# Altium footprint library CHXXX.pcblib: 120 footprints (part 5 of 8)
Each footprint in its own frame and in the unit in brackets; x right, y up, seen from the top. Pads: shape width x height; smd on the part's side, far side on the other; paste and mask are expansions set on the pad; w line width, h text height; cw(c..) or ccw(c..) is an arc to the next point about the centre after c.
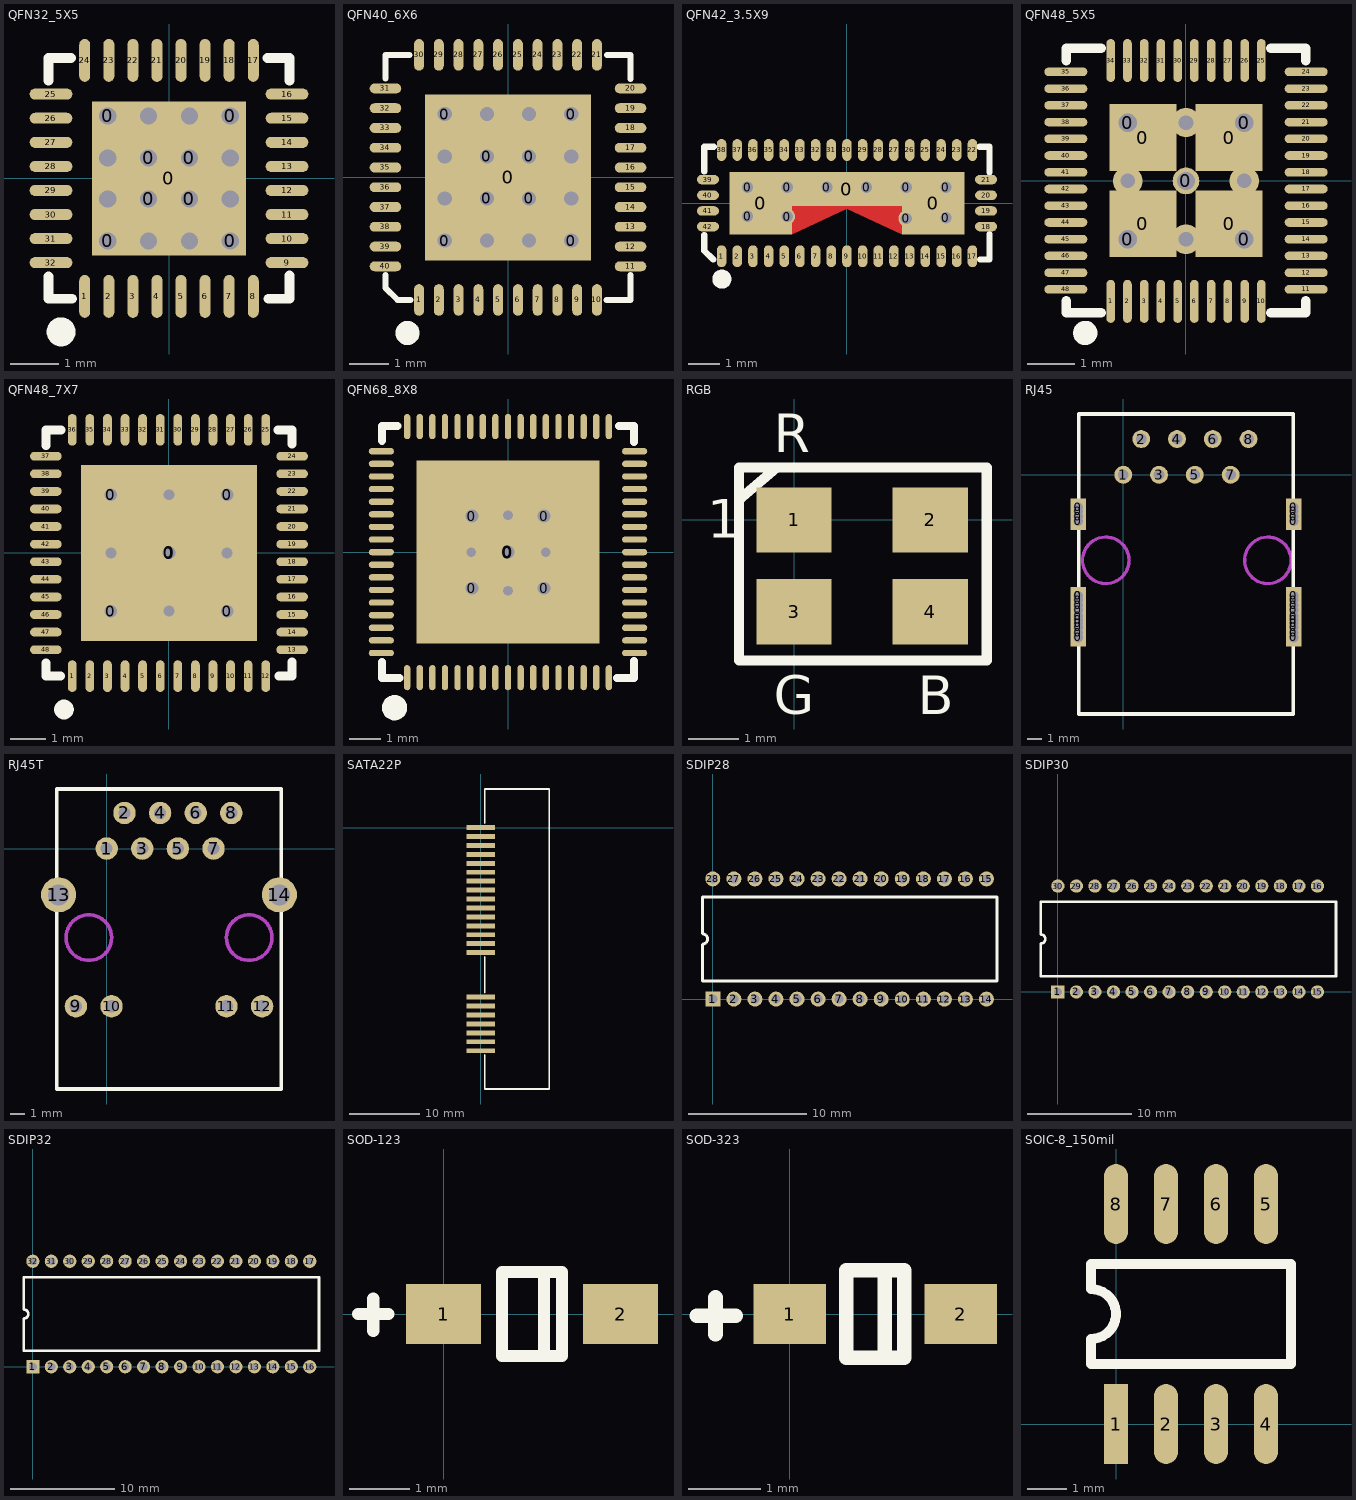
[diagram p4: the footprints below, top view; thin cyan lines are the x and y axes]

## QFN32_5X5 [mil]
pads (41):
  round 20 hole 14: 0(-50.12,-51.11) 0(-50.12,51.11) 0(-16.71,-16.7) 0(-16.71,16.7) 0(16.71,-16.7) 0(16.71,16.7) 0(50.12,-51.11) 0(50.12,51.11)
  rect 125.98x125.98 smd: 0(0,0)
  oval 9x35 smd: 1(-68.9,-96.49) 2(-49.21,-96.49) 3(-29.53,-96.49) 4(-9.84,-96.49) 5(9.84,-96.49) 6(29.53,-96.49) 7(49.21,-96.49) 8(68.9,-96.49) 17(68.9,96.49) 18(49.21,96.49) 19(29.53,96.49) 20(9.84,96.49) 21(-9.84,96.49) 22(-29.53,96.49) 23(-49.21,96.49) 24(-68.9,96.49)
  oval 35x9 smd: 9(96.49,-68.9) 10(96.49,-49.21) 11(96.49,-29.53) 12(96.49,-9.84) 13(96.49,9.84) 14(96.49,29.53) 15(96.49,49.21) 16(96.49,68.9) 25(-96.49,68.9) 26(-96.49,49.21) 27(-96.49,29.53) 28(-96.49,9.84) 29(-96.49,-9.84) 30(-96.49,-29.53) 31(-96.49,-49.21) 32(-96.49,-68.9)
via -16.71,51.11 diameter 20 hole 14
via 16.71,51.11 diameter 20 hole 14
via 50.12,16.7 diameter 20 hole 14
via 50.12,-16.7 diameter 20 hole 14
via 16.71,-51.11 diameter 20 hole 14
via -16.71,-51.11 diameter 20 hole 14
via -50.12,-16.7 diameter 20 hole 14
via -50.12,16.7 diameter 20 hole 14
TopOverlay:
  circle w12: c-88.22,-125.47 r5.84
  lines w8: -98.43,-80.19 -98.43,-98.43 -79.38,-98.43 ; -98.43,79.88 -98.43,98.43 -80.12,98.43 ; 80.43,98.43 98.42,98.43 98.42,79.79 ; 81.23,-98.43 98.42,-98.43 98.42,-79.42

## QFN40_6X6 [mm]
pads (49):
  round 0.508 hole 0.356 mask+0.102: 0(-1.6,-1.6) 0(-1.6,1.6) 0(-0.533,-0.533) 0(-0.533,0.533) 0(0.533,-0.533) 0(0.533,0.533) 0(1.6,-1.6) 0(1.6,1.6)
  rect 4.2x4.2 smd mask+0.102: 0(0,0)
  oval 0.25x0.8 smd mask+0.102: 1(-2.25,-3.1) 2(-1.75,-3.1) 3(-1.25,-3.1) 4(-0.75,-3.1) 5(-0.25,-3.1) 6(0.25,-3.1) 7(0.75,-3.1) 8(1.25,-3.1) 9(1.75,-3.1) 10(2.25,-3.1) 21(2.25,3.1) 22(1.75,3.1) 23(1.25,3.1) 24(0.75,3.1) 25(0.25,3.1) 26(-0.25,3.1) 27(-0.75,3.1) 28(-1.25,3.1) 29(-1.75,3.1) 30(-2.25,3.1)
  oval 0.8x0.25 smd mask+0.102: 11(3.1,-2.25) 12(3.1,-1.75) 13(3.1,-1.25) 14(3.1,-0.75) 15(3.1,-0.25) 16(3.1,0.25) 17(3.1,0.75) 18(3.1,1.25) 19(3.1,1.75) 20(3.1,2.25) 31(-3.1,2.25) 32(-3.1,1.75) 33(-3.1,1.25) 34(-3.1,0.75) 35(-3.1,0.25) 36(-3.1,-0.25) 37(-3.1,-0.75) 38(-3.1,-1.25) 39(-3.1,-1.75) 40(-3.1,-2.25)
via -0.533,1.6 diameter 0.508 hole 0.356
via 0.533,1.6 diameter 0.508 hole 0.356
via 1.6,0.533 diameter 0.508 hole 0.356
via 1.6,-0.533 diameter 0.508 hole 0.356
via 0.533,-1.6 diameter 0.508 hole 0.356
via -0.533,-1.6 diameter 0.508 hole 0.356
via -1.6,0.533 diameter 0.508 hole 0.356
via -1.6,-0.533 diameter 0.508 hole 0.356
TopOverlay:
  circle w0.305: c-2.541,-3.936 r0.152
  lines w0.152: -3.1,-2.79 -3.1,-2.794 ; -3.1,-2.466 -3.1,-2.794 ; -3.1,2.501 -3.1,3.1 -2.493,3.1 ; -2.467,-3.1 -2.794,-3.1 -3.1,-2.794 ; 2.491,-3.1 3.1,-3.1 3.1,-2.476 ; 2.502,3.1 3.1,3.1 3.1,2.484

## QFN42_3.5X9 [mm]
pads (55):
  round 0.508 hole 0.356 mask+0: 0(-3.176,-0.419) 0(-3.176,0.504) 0(-1.909,-0.429) 0(-1.909,0.504) 0(-0.642,0.504) 0(0.625,0.504) 0(1.892,-0.49) 0(1.892,0.504) 0(3.159,-0.469) 0(3.159,0.504)
  rect 2x2 smd: 0(-2.75,0) 0(2.75,0)
  rect 7.5x1.1 smd: 0(-0.002,0.45)
  oval 0.3x0.7 smd: 1(-4.002,-1.697) 2(-3.502,-1.697) 3(-3.002,-1.697) 4(-2.502,-1.697) 5(-2.002,-1.697) 6(-1.502,-1.697) 7(-1.002,-1.697) 8(-0.502,-1.697) 9(-0.002,-1.697) 10(0.498,-1.697) 11(0.998,-1.697) 12(1.498,-1.697) 13(2.002,-1.697) 14(2.502,-1.697) 15(3.002,-1.697) 16(3.502,-1.697) 17(4.002,-1.697) 22(4.002,1.697) 23(3.502,1.697) 24(3.002,1.697) 25(2.502,1.697) 26(2.002,1.697) 27(1.498,1.697) 28(0.998,1.697) 29(0.498,1.697) 30(-0.002,1.697) 31(-0.502,1.697) 32(-1.002,1.697) 33(-1.502,1.697) 34(-2.002,1.697) 35(-2.502,1.697) 36(-3.002,1.697) 37(-3.502,1.697) 38(-4.002,1.697)
  oval 0.7x0.3 smd: 18(4.438,-0.75) 19(4.438,-0.25) 20(4.438,0.25) 21(4.438,0.75) 39(-4.438,0.75) 40(-4.438,0.25) 41(-4.438,-0.25) 42(-4.438,-0.75)
TopLayer:
  region: 1.745,-1 1.745,0 -1.75,0 -1.75,-1 -0.002,-0.174
TopOverlay:
  circle w0.305: c-3.994,-2.425 r0.152
  lines w0.203: -4.552,-1.02 -4.552,-1.521 -4.273,-1.8 ; -4.552,1.01 -4.552,1.8 -4.25,1.8 ; 4.23,1.8 4.548,1.8 4.548,0.99 ; 4.25,-1.8 4.548,-1.8 4.548,-1
TopPaste:
  region: -1.75,-1 -0.002,-0.174 1.745,-1 2.356,-1 2.356,0 -2.36,0 -2.36,-1
TopSolder:
  region: -1.648,-1.102 -0.002,-0.323 1.644,-1.102 2.356,-1.102 2.356,0 -2.36,0 -2.36,-1.102

## QFN48_5X5 [mm]
pads (57):
  round 0.559 hole 0.381 mask+0.102: 0(-1.219,-1.219) 0(-1.219,1.219) 0(0,0) 0(1.219,-1.219) 0(1.219,1.219)
  rect 1.397x1.397 smd mask+0: 0(-0.901,-0.895) 0(-0.901,0.908) 0(0.902,-0.895) 0(0.902,0.908)
  oval 0.18x0.9 smd: 1(-1.575,-2.519) 2(-1.225,-2.519) 3(-0.875,-2.519) 4(-0.525,-2.519) 5(-0.175,-2.519) 6(0.175,-2.519) 7(0.525,-2.519) 8(0.875,-2.519) 9(1.225,-2.519) 10(1.575,-2.519) 25(1.575,2.519) 26(1.225,2.519) 27(0.875,2.519) 28(0.525,2.519) 29(0.175,2.519) 30(-0.175,2.519) 31(-0.525,2.519) 32(-0.875,2.519) 33(-1.225,2.519) 34(-1.575,2.519)
  oval 0.9x0.18 smd: 11(2.514,-2.269) 12(2.514,-1.919) 13(2.514,-1.569) 14(2.514,-1.219) 15(2.514,-0.869) 16(2.514,-0.519) 17(2.514,-0.169) 18(2.514,0.181) 19(2.514,0.531) 20(2.514,0.881) 21(2.514,1.231) 22(2.514,1.581) 23(2.514,1.931) 24(2.514,2.281) 35(-2.514,2.281) 36(-2.514,1.931) 37(-2.514,1.581) 38(-2.514,1.231) 39(-2.514,0.881) 40(-2.514,0.531) 41(-2.514,0.181) 42(-2.514,-0.169) 43(-2.514,-0.519) 44(-2.514,-0.869) 45(-2.514,-1.219) 46(-2.514,-1.569) 47(-2.514,-1.919) 48(-2.514,-2.269)
via 0,1.219 diameter 0.61 hole 0.305
via -1.219,0 diameter 0.61 hole 0.305
via 0,-1.219 diameter 0.61 hole 0.305
via 1.219,0 diameter 0.61 hole 0.305
TopOverlay:
  circle w0.254: c-2.108,-3.179 r0.127
  lines w0.2: -2.509,-2.506 -2.509,-2.76 -1.778,-2.76 ; -2.509,2.519 -2.509,2.772 -1.778,2.772 ; 1.778,-2.76 2.509,-2.76 2.509,-2.506 ; 1.778,2.772 2.509,2.772 2.509,2.519

## QFN48_7X7 [mm]
pads (54):
  round 0.559 hole 0.356 mask+0.102: 0(-1.651,-1.651) 0(-1.651,1.651) 0(0,0) 0(1.651,-1.651) 0(1.651,1.651)
  rect 5x5 smd mask+0.102: 0(0,0)
  oval 0.25x0.9 smd mask+0.102: 1(-2.75,-3.5) 2(-2.25,-3.5) 3(-1.75,-3.5) 4(-1.25,-3.5) 5(-0.75,-3.5) 6(-0.25,-3.5) 7(0.25,-3.5) 8(0.75,-3.5) 9(1.25,-3.5) 10(1.75,-3.5) 11(2.25,-3.5) 12(2.75,-3.5) 25(2.75,3.5) 26(2.25,3.5) 27(1.75,3.5) 28(1.25,3.5) 29(0.75,3.5) 30(0.25,3.5) 31(-0.25,3.5) 32(-0.75,3.5) 33(-1.25,3.5) 34(-1.75,3.5) 35(-2.25,3.5) 36(-2.75,3.5)
  oval 0.9x0.25 smd mask+0.102: 13(3.5,-2.75) 14(3.5,-2.25) 15(3.5,-1.75) 16(3.5,-1.25) 17(3.5,-0.75) 18(3.5,-0.25) 19(3.5,0.25) 20(3.5,0.75) 21(3.5,1.25) 22(3.5,1.75) 23(3.5,2.25) 24(3.5,2.75) 37(-3.5,2.75) 38(-3.5,2.25) 39(-3.5,1.75) 40(-3.5,1.25) 41(-3.5,0.75) 42(-3.5,0.25) 43(-3.5,-0.25) 44(-3.5,-0.75) 45(-3.5,-1.25) 46(-3.5,-1.75) 47(-3.5,-2.25) 48(-3.5,-2.75)
via 0,-1.651 diameter 0.61 hole 0.305
via 1.651,0 diameter 0.61 hole 0.305
via 0,1.651 diameter 0.61 hole 0.305
via -1.651,0 diameter 0.61 hole 0.305
TopOverlay:
  circle w0.305: c-2.986,-4.451 r0.127
  lines w0.254: -3.5,-3.128 -3.5,-3.5 -3.082,-3.5 ; -3.5,3.057 -3.5,3.5 -3.066,3.5 ; 3.099,3.5 3.5,3.5 3.5,3.096 ; 3.126,-3.5 3.5,-3.5 3.5,-3.104

## QFN68_8X8 [mm]
pads (74):
  round 0.559 hole 0.406: 0(-1.143,-1.143) 0(-1.143,1.143) 0(0,0) 0(1.143,-1.143) 0(1.143,1.143)
  rect 5.8x5.8 smd: 0(0,0)
  oval 0.2x0.8 smd: 1(-3.2,-3.982) 2(-2.8,-3.982) 3(-2.4,-3.982) 4(-2,-3.982) 5(-1.6,-3.982) 6(-1.2,-3.982) 7(-0.8,-3.982) 8(-0.4,-3.982) 9(0,-3.982) 10(0.4,-3.982) 11(0.8,-3.982) 12(1.2,-3.982) 13(1.6,-3.982) 14(2,-3.982) 15(2.4,-3.982) 16(2.8,-3.982) 17(3.2,-3.982) 35(3.2,3.982) 36(2.8,3.982) 37(2.4,3.982) 38(2,3.982) 39(1.6,3.982) 40(1.2,3.982) 41(0.8,3.982) 42(0.4,3.982) 43(0,3.982) 44(-0.4,3.982) 45(-0.8,3.982) 46(-1.2,3.982) 47(-1.6,3.982) 48(-2,3.982) 49(-2.4,3.982) 50(-2.8,3.982) 51(-3.2,3.982)
  oval 0.8x0.2 smd: 18(4.018,-3.2) 19(4.018,-2.8) 20(4.018,-2.4) 21(4.018,-2) 22(4.018,-1.6) 23(4.018,-1.2) 24(4.018,-0.8) 25(4.018,-0.4) 26(4.018,0) 27(4.018,0.4) 28(4.018,0.8) 29(4.018,1.2) 30(4.018,1.6) 31(4.018,2) 32(4.018,2.4) 33(4.018,2.8) 34(4.018,3.2) 52(-4.018,3.2) 53(-4.018,2.8) 54(-4.018,2.4) 55(-4.018,2) 56(-4.018,1.6) 57(-4.018,1.2) 58(-4.018,0.8) 59(-4.018,0.4) 60(-4.018,0) 61(-4.018,-0.4) 62(-4.018,-0.8) 63(-4.018,-1.2) 64(-4.018,-1.6) 65(-4.018,-2) 66(-4.018,-2.4) 67(-4.018,-2.8) 68(-4.018,-3.2)
via 1.194,0 diameter 0.61 hole 0.305
via 0,-1.219 diameter 0.61 hole 0.305
via -1.168,0 diameter 0.61 hole 0.305
via 0,1.168 diameter 0.61 hole 0.305
TopOverlay:
  circle w0.4: c-3.599,-4.935 r0.2
  lines w0.254: -4,-3.492 -4,-4 -3.447,-4 ; -4,3.534 -4,4 -3.503,4 ; 3.459,-4 4,-4 4,-3.458 ; 3.517,4 4,4 4,3.498

## RGB [mm]
pads (4):
  rect 1.5x1.3 smd: 1(0,0) 2(2.71,0) 3(0,-1.825) 4(2.71,-1.825)
TopOverlay:
  lines w0.203: -1.09,0.404 -0.352,1.037 ; -1.092,-2.794 3.835,-2.794 3.835,1.041 -1.092,1.041 -1.092,-2.794
  text "B" at 2.464,-3.861 h0.76
  text "G" at -0.406,-3.861 h0.76
  text "R" at -0.406,1.346 h0.76
  text "1" at -1.727,-0.356 h0.76

## RJ45 [mm]
pads (37):
  rect 1.1x1.27 hole 0.701: 0(-3.2,-11.541) 0(-3.2,-11.212) 0(-3.2,-10.831) 0(-3.2,-10.541) 0(-3.2,-10.287) 0(-3.2,-10.033) 0(-3.2,-9.6) 0(-3.2,-9.271) 0(-3.2,-8.89) 0(-3.2,-8.6) 0(-3.2,-8.6) 0(-3.2,-3.3) 0(-3.2,-2.971) 0(-3.2,-2.59) 0(-3.2,-2.3) 0(12.1,-11.541) 0(12.1,-11.212) 0(12.1,-10.831) 0(12.1,-10.541) 0(12.1,-10.287) 0(12.1,-10.033) 0(12.1,-9.6) 0(12.1,-9.271) 0(12.1,-8.89) 0(12.1,-8.6) 0(12.1,-3.3) 0(12.1,-2.971) 0(12.1,-2.59) 0(12.1,-2.3)
  round 1.27 hole 0.762: 1(0,0) 2(1.27,2.54) 3(2.54,0) 4(3.81,2.54) 5(5.08,0) 6(6.35,2.54) 7(7.62,0) 8(8.89,2.54)
TopOverlay:
  lines w0.254: 12.065,-13.335 12.065,4.318 ; 12.065,4.318 -3.175,4.318 -3.175,-16.982 12.065,-16.982 12.065,4.318
KeepOutLayer:
  circle w0.229: c10.262,-6.071 r1.651
  circle w0.229: c-1.245,-6.071 r1.651
Mechanical1:
  circle w0.229: c10.262,-6.071 r1.651
  circle w0.229: c-1.245,-6.071 r1.651

## RJ45T [mm]
pads (14):
  round 1.6 hole 0.85: 1(0,0) 2(1.27,2.54) 3(2.54,0) 4(3.81,2.54) 5(5.08,0) 6(6.35,2.54) 7(7.62,0) 8(8.89,2.54)
  round 1.6 hole 0.9: 9(-2.195,-11.25) 10(0.345,-11.25) 11(8.545,-11.25) 12(11.085,-11.25)
  round 2.5 hole 1.5: 13(-3.43,-3.3) 14(12.32,-3.3)
TopOverlay:
  lines w0.254: -3.555,-17.15 -3.555,4.25 12.445,4.25 12.445,-17.15 -3.555,-17.15
KeepOutLayer:
  circle w0.254: c10.16,-6.35 r1.625
  circle w0.254: c-1.27,-6.35 r1.625
Mechanical1:
  circle w0.254: c10.16,-6.35 r1.625
  circle w0.254: c-1.27,-6.35 r1.625

## SATA22P [mm]
pads (22):
  rect 4x0.7 smd: 1(0,0) 2(0,-1.27) 3(0,-2.54) 4(0,-3.81) 5(0,-5.08) 6(0,-6.35) 7(0,-7.62) 8(0,-8.89) 9(0,-10.16) 10(0,-11.43) 11(0,-12.7) 12(0,-13.97) 13(0,-15.24) 14(0,-16.51) 15(0,-17.78) 16(0,-24.13) 17(0,-25.4) 18(0,-26.67) 19(0,-27.94) 20(0,-29.21) 21(0,-30.48) 22(0,-31.75)
TopOverlay:
  lines w0.254: 0.551,-32.376 0.551,-37.2 9.751,-37.2 9.751,5.5 0.551,5.5 0.551,0.676 ; 0.551,-23.5 0.551,-18.425

## SDIP28 [mil]
pads (28):
  rect 50x50 hole 30: 1(0,0)
  round 50 hole 30: 2(70,0) 3(140,0) 4(210,0) 5(280,0) 6(350,0) 7(420,0) 8(490,0) 9(560,0) 10(630,0) 11(700,0) 12(770,0) 13(840,0) 14(910,0) 15(910,400) 16(840,400) 17(770,400) 18(700,400) 19(630,400) 20(560,400) 21(490,400) 22(420,400) 23(350,400) 24(280,400) 25(210,400) 26(140,400) 27(70,400) 28(0,400)
TopOverlay:
  lines w10: -35,60 -35,182.5 ccw(c-35,200) -35,217.5 -35,340 945,340 945,60 -35,60

## SDIP30 [mil]
pads (30):
  rect 50x50 hole 30: 1(0,0)
  round 50 hole 30: 2(70,0) 3(140,0) 4(210,0) 5(280,0) 6(350,0) 7(420,0) 8(490,0) 9(560,0) 10(630,0) 11(700,0) 12(770,0) 13(840,0) 14(910,0) 15(980,0) 16(980,400) 17(910,400) 18(840,400) 19(770,400) 20(700,400) 21(630,400) 22(560,400) 23(490,400) 24(420,400) 25(350,400) 26(280,400) 27(210,400) 28(140,400) 29(70,400) 30(0,400)
TopOverlay:
  lines w10: -65,60 1050,60 1050,340 -65,340 -65,217.5 cw(c-65,200) -65,182.5 -65,60

## SDIP32 [mil]
pads (32):
  rect 50x50 hole 30: 1(0,0)
  round 50 hole 30: 2(70,0) 3(140,0) 4(210,0) 5(280,0) 6(350,0) 7(420,0) 8(490,0) 9(560,0) 10(630,0) 11(700,0) 12(770,0) 13(840,0) 14(910,0) 15(980,0) 16(1050,0) 17(1050,400) 18(980,400) 19(910,400) 20(840,400) 21(770,400) 22(700,400) 23(630,400) 24(560,400) 25(490,400) 26(420,400) 27(350,400) 28(280,400) 29(210,400) 30(140,400) 31(70,400) 32(0,400)
TopOverlay:
  lines w10: -35,60 -35,182.5 ccw(c-35,200) -35,217.5 -35,340 1085,340 1085,60 -35,60

## SOD-123 [mm]
pads (2):
  rect 1.25x1 smd: 1(0,0) 2(2.95,0)
TopOverlay:
  lines w0.2: 1.675,-0.7 1.675,0.7 ; 0.975,-0.7 0.975,0.7 1.975,0.7 1.975,-0.7 0.975,-0.7
  lines w0.203: -1.43,0 -0.922,0 ; -1.176,-0.279 -1.176,0.254

## SOD-323 [mm]
pads (2):
  rect 1x0.83 smd: 1(0,0) 2(2.36,0)
TopOverlay:
  lines w0.2: 1.31,-0.6 1.31,0.6 ; 0.78,-0.6 0.78,0.6 1.58,0.6 1.58,-0.6 0.78,-0.6
  lines w0.203: -1.278,-0.025 -0.744,-0.025 ; -1.024,-0.279 -1.024,0.229

## SOIC-8_150mil [mil]
pads (8):
  rect 24x80 smd: 1(0,0)
  oval 24x80 smd: 2(50,0) 3(100,0) 4(150,0) 5(150,220) 6(100,220) 7(50,220) 8(0,220)
TopOverlay:
  lines w10: -25,60 -25,85 ccw(c-25,110) -25,135 -25,160 175,160 175,60 -25,60